# Altium schematic symbol library Speakers.SchLib: 1 symbol
Pins are listed as number, name and electrical type; pins without a type are passive.

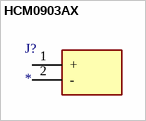
[diagram p0: symbol HCM0903AX]

## HCM0903AX
designator J?
Connector; Manufacturer_Name: BeStar Electronics; Manufacturer_Part_Number: HCM0903AX; Description: Electro-magnetic Sound Generator Component; Datasheet Link: https://www.arrow.com/en/products/hcm0903ax/bestar-technologies; Height: 6mm; Arrow Part Number: HCM0903AX; Arrow Price/Stock: https://www.arrow.com/en/products/hcm0903ax/bestar-technologies
footprint HCM0903AX
pins: 1 +, 2 -